# EAGLE library part RJ12 (library connectors)
AMP connector
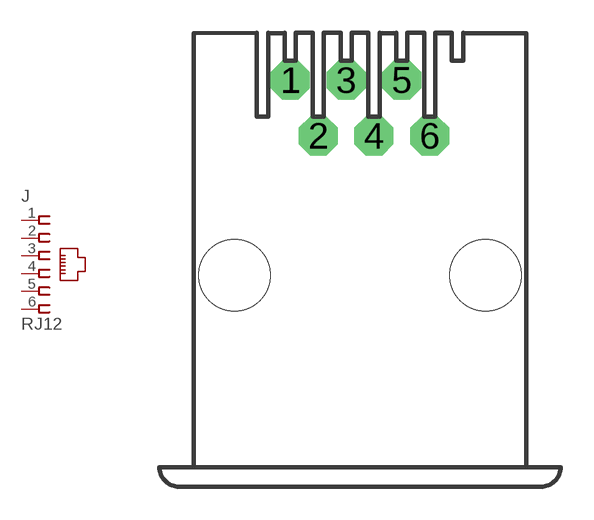
[diagram p10: symbol with the pads of RJ12; footprint RJ12]

Designator prefix J

## RJ12RJ12  [RJ12]
1  1  pas
2  2  pas
3  3  pas
4  4  pas
5  5  pas
6  6  pas

## Footprint RJ12 (pad centres in mm)
Modular Jack with Flanged
drill 0.7 pad 1.778 octagon: 1 -3.175,8.89; 2 -1.905,6.35; 3 -0.635,8.89; 4 0.635,6.35; 5 1.905,8.89; 6 3.175,6.35
hole 3.251 at -5.715,0
hole 3.251 at 5.715,0